# EAGLE library part EPM7192-PGA160 (library altera)
EPM7192E MAX 7000 family
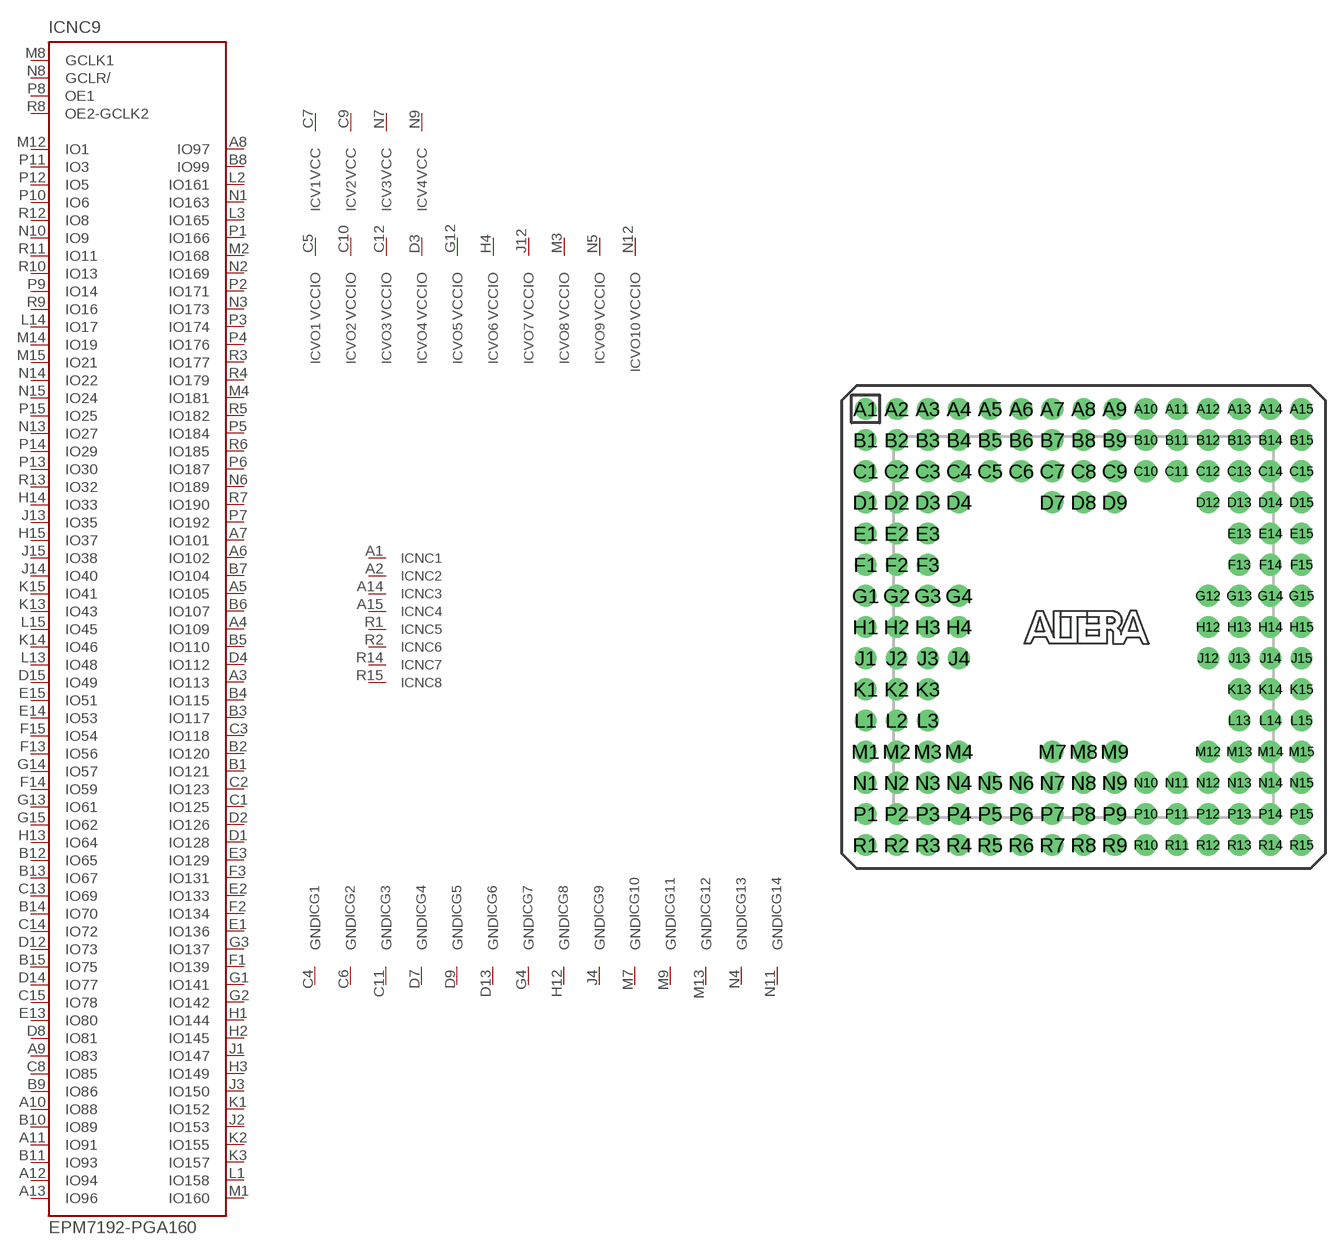
[diagram p35: symbol with the pads of PGA160; footprint PGA160]

Designator prefix IC; gates G1=GND G2=GND G3=GND G4=GND G5=GND G6=GND G7=GND G8=GND G9=GND G10=GND G11=GND G12=GND G13=GND G14=GND V1=VCCINT V2=VCCINT V3=VCCINT V4=VCCINT VO1=VCCIO VO2=VCCIO VO3=VCCIO VO4=VCCIO VO5=VCCIO VO6=VCCIO VO7=VCCIO VO8=VCCIO VO9=VCCIO VO10=VCCIO NC1=NC NC2=NC NC3=NC NC4=NC NC5=NC NC6=NC NC7=NC NC8=NC NC9=7192

## EPM7192-PGA160 (OC_FARNELL: unknown; OC_NEWARK: unknown)  [PGA160]
A1  NC1:NC  nc
A2  NC2:NC  nc
A3  NC9:IO113
A4  NC9:IO109
A5  NC9:IO105
A6  NC9:IO102
A7  NC9:IO101
A8  NC9:IO97
A9  NC9:IO83
A10  NC9:IO88
A11  NC9:IO91
A12  NC9:IO94
A13  NC9:IO96
A14  NC3:NC  nc
A15  NC4:NC  nc
B1  NC9:IO121
B2  NC9:IO120
B3  NC9:IO117
B4  NC9:IO115
B5  NC9:IO110
B6  NC9:IO107
B7  NC9:IO104
B8  NC9:IO99
B9  NC9:IO86
B10  NC9:IO89
B11  NC9:IO93
B12  NC9:IO65
B13  NC9:IO67
B14  NC9:IO70
B15  NC9:IO75
C1  NC9:IO125
C2  NC9:IO123
C3  NC9:IO118
C4  G1:GND  pwr
C5  VO1:VCCIO  pwr
C6  G2:GND  pwr
C7  V1:VCC  pwr
C8  NC9:IO85
C9  V2:VCC  pwr
C10  VO2:VCCIO  pwr
C11  G3:GND  pwr
C12  VO3:VCCIO  pwr
C13  NC9:IO69
C14  NC9:IO72
C15  NC9:IO78
D1  NC9:IO128
D2  NC9:IO126
D3  VO4:VCCIO  pwr
D4  NC9:IO112
D7  G4:GND  pwr
D8  NC9:IO81
D9  G5:GND  pwr
D12  NC9:IO73
D13  G6:GND  pwr
D14  NC9:IO77
D15  NC9:IO49
E1  NC9:IO136
E2  NC9:IO133
E3  NC9:IO129
E13  NC9:IO80
E14  NC9:IO53
E15  NC9:IO51
F1  NC9:IO139
F2  NC9:IO134
F3  NC9:IO131
F13  NC9:IO56
F14  NC9:IO59
F15  NC9:IO54
G1  NC9:IO141
G2  NC9:IO142
G3  NC9:IO137
G4  G7:GND  pwr
G12  VO5:VCCIO  pwr
G13  NC9:IO61
G14  NC9:IO57
G15  NC9:IO62
H1  NC9:IO144
H2  NC9:IO145
H3  NC9:IO149
H4  VO6:VCCIO  pwr
H12  G8:GND  pwr
H13  NC9:IO64
H14  NC9:IO33
H15  NC9:IO37
J1  NC9:IO147
J2  NC9:IO153
J3  NC9:IO150
J4  G9:GND  pwr
J12  VO7:VCCIO  pwr
J13  NC9:IO35
J14  NC9:IO40
J15  NC9:IO38
K1  NC9:IO152
K2  NC9:IO155
K3  NC9:IO157
K13  NC9:IO43
K14  NC9:IO46
K15  NC9:IO41
L1  NC9:IO158
L2  NC9:IO161
L3  NC9:IO165
L13  NC9:IO48
L14  NC9:IO17
L15  NC9:IO45
M1  NC9:IO160
M2  NC9:IO168
M3  VO8:VCCIO  pwr
M4  NC9:IO181
M7  G10:GND  pwr
M8  NC9:GCLK1  in
M9  G11:GND  pwr
M12  NC9:IO1
M13  G12:GND  pwr
M14  NC9:IO19
M15  NC9:IO21
N1  NC9:IO163
N2  NC9:IO169
N3  NC9:IO173
N4  G13:GND  pwr
N5  VO9:VCCIO  pwr
N6  NC9:IO189
N7  V3:VCC  pwr
N8  NC9:GCLR/  in
N9  V4:VCC  pwr
N10  NC9:IO9
N11  G14:GND  pwr
N12  VO10:VCCIO  pwr
N13  NC9:IO27
N14  NC9:IO22
N15  NC9:IO24
P1  NC9:IO166
P2  NC9:IO171
P3  NC9:IO174
P4  NC9:IO176
P5  NC9:IO184
P6  NC9:IO187
P7  NC9:IO192
P8  NC9:OE1  in
P9  NC9:IO14
P10  NC9:IO6
P11  NC9:IO3
P12  NC9:IO5
P13  NC9:IO30
P14  NC9:IO29
P15  NC9:IO25
R1  NC5:NC  nc
R2  NC6:NC  nc
R3  NC9:IO177
R4  NC9:IO179
R5  NC9:IO182
R6  NC9:IO185
R7  NC9:IO190
R8  NC9:OE2-GCLK2  in
R9  NC9:IO16
R10  NC9:IO13
R11  NC9:IO11
R12  NC9:IO8
R13  NC9:IO32
R14  NC7:NC  nc
R15  NC8:NC  nc

## Footprint PGA160 (pad centres in mm)
Pin Grid Array
drill 0.813 pad 1.778: A1 -17.78,17.78; A2 -15.24,17.78; A3 -12.7,17.78; A4 -10.16,17.78; A5 -7.62,17.78; A6 -5.08,17.78; A7 -2.54,17.78; A8 0,17.78; A9 2.54,17.78; A10 5.08,17.78; A11 7.62,17.78; A12 10.16,17.78; A13 12.7,17.78; A14 15.24,17.78; A15 17.78,17.78; B1 -17.78,15.24; B2 -15.24,15.24; B3 -12.7,15.24; B4 -10.16,15.24; B5 -7.62,15.24; B6 -5.08,15.24; B7 -2.54,15.24; B8 0,15.24; B9 2.54,15.24; B10 5.08,15.24; B11 7.62,15.24; B12 10.16,15.24; B13 12.7,15.24; B14 15.24,15.24; B15 17.78,15.24; C1 -17.78,12.7; C2 -15.24,12.7; C3 -12.7,12.7; C4 -10.16,12.7; C5 -7.62,12.7; C6 -5.08,12.7; C7 -2.54,12.7; C8 0,12.7; C9 2.54,12.7; C10 5.08,12.7; C11 7.62,12.7; C12 10.16,12.7; C13 12.7,12.7; C14 15.24,12.7; C15 17.78,12.7; D1 -17.78,10.16; D2 -15.24,10.16; D3 -12.7,10.16; D4 -10.16,10.16; D7 -2.54,10.16; D8 0,10.16; D9 2.54,10.16; D12 10.16,10.16; D13 12.7,10.16; D14 15.24,10.16; D15 17.78,10.16; E1 -17.78,7.62; E2 -15.24,7.62; E3 -12.7,7.62; E13 12.7,7.62; E14 15.24,7.62; E15 17.78,7.62; F1 -17.78,5.08; F2 -15.24,5.08; F3 -12.7,5.08; F13 12.7,5.08; F14 15.24,5.08; F15 17.78,5.08; G1 -17.78,2.54; G2 -15.24,2.54; G3 -12.7,2.54; G4 -10.16,2.54; G12 10.16,2.54; G13 12.7,2.54; G14 15.24,2.54; G15 17.78,2.54; H1 -17.78,0; H2 -15.24,0; H3 -12.7,0; H4 -10.16,0; H12 10.16,0; H13 12.7,0; H14 15.24,0; H15 17.78,0; J1 -17.78,-2.54; J2 -15.24,-2.54; J3 -12.7,-2.54; J4 -10.16,-2.54; J12 10.16,-2.54; J13 12.7,-2.54; J14 15.24,-2.54; J15 17.78,-2.54; K1 -17.78,-5.08; K2 -15.24,-5.08; K3 -12.7,-5.08; K13 12.7,-5.08; K14 15.24,-5.08; K15 17.78,-5.08; L1 -17.78,-7.62; L2 -15.24,-7.62; L3 -12.7,-7.62; L13 12.7,-7.62; L14 15.24,-7.62; L15 17.78,-7.62; M1 -17.78,-10.16; M2 -15.24,-10.16; M3 -12.7,-10.16; M4 -10.16,-10.16; M7 -2.54,-10.16; M8 0,-10.16; M9 2.54,-10.16; M12 10.16,-10.16; M13 12.7,-10.16; M14 15.24,-10.16; M15 17.78,-10.16; N1 -17.78,-12.7; N2 -15.24,-12.7; N3 -12.7,-12.7; N4 -10.16,-12.7; N5 -7.62,-12.7; N6 -5.08,-12.7; N7 -2.54,-12.7; N8 0,-12.7; N9 2.54,-12.7; N10 5.08,-12.7; N11 7.62,-12.7; N12 10.16,-12.7; N13 12.7,-12.7; N14 15.24,-12.7; N15 17.78,-12.7; P1 -17.78,-15.24; P2 -15.24,-15.24; P3 -12.7,-15.24; P4 -10.16,-15.24; P5 -7.62,-15.24; P6 -5.08,-15.24; P7 -2.54,-15.24; P8 0,-15.24; P9 2.54,-15.24; P10 5.08,-15.24; P11 7.62,-15.24; P12 10.16,-15.24; P13 12.7,-15.24; P14 15.24,-15.24; P15 17.78,-15.24; R1 -17.78,-17.78; R2 -15.24,-17.78; R3 -12.7,-17.78; R4 -10.16,-17.78; R5 -7.62,-17.78; R6 -5.08,-17.78; R7 -2.54,-17.78; R8 0,-17.78; R9 2.54,-17.78; R10 5.08,-17.78; R11 7.62,-17.78; R12 10.16,-17.78; R13 12.7,-17.78; R14 15.24,-17.78; R15 17.78,-17.78